# EAGLE library part E104-BT5005A (library  E104-BT5005A)
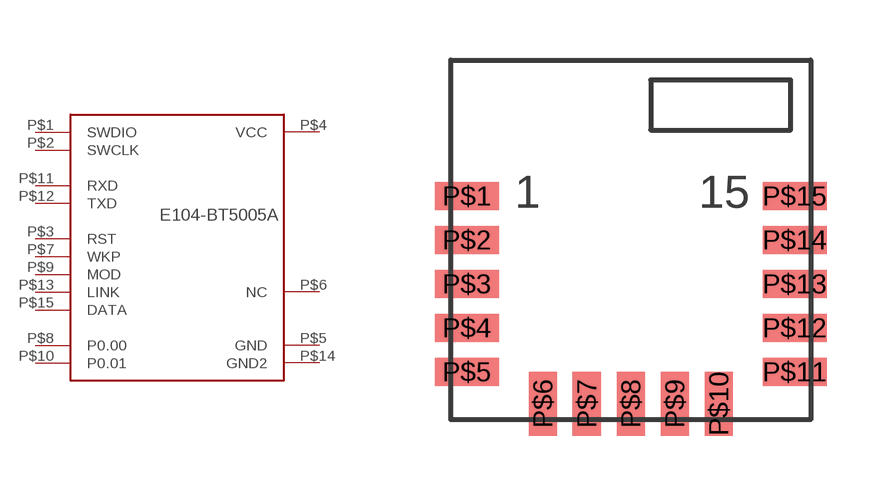
[diagram p0: symbol with the pads of E104-BT5005A; footprint E104-BT5005A]

Designator prefix -

## E104-BT5005A  [E104-BT5005A]
P$1  SWDIO
P$2  SWCLK
P$3  RST
P$4  VCC
P$5  GND
P$6  NC
P$7  WKP
P$8  P0.00
P$9  MOD
P$10  P0.01
P$11  RXD
P$12  TXD
P$13  LINK
P$14  GND2
P$15  DATA

## Footprint E104-BT5005A (pad centres in mm)
smd 1.6 x 0.7: P$1 0.4,5.6; P$2 0.4,4.5; P$3 0.4,3.4; P$4 0.4,2.3; P$5 0.4,1.2; P$11 8.6,1.2; P$12 8.6,2.3; P$13 8.6,3.4; P$14 8.6,4.5; P$15 8.6,5.6
smd 0.7 x 1.6: P$6 2.3,0.4; P$7 3.4,0.4; P$8 4.5,0.4; P$9 5.6,0.4; P$10 6.7,0.4